# Altium footprint library Fuse1.PcbLib: 1 footprints
Each footprint in its own frame and in the unit in brackets; x right, y up, seen from the top. Pads: shape width x height; smd on the part's side, far side on the other; paste and mask are expansions set on the pad; w line width, h text height; cw(c..) or ccw(c..) is an arc to the next point about the centre after c.
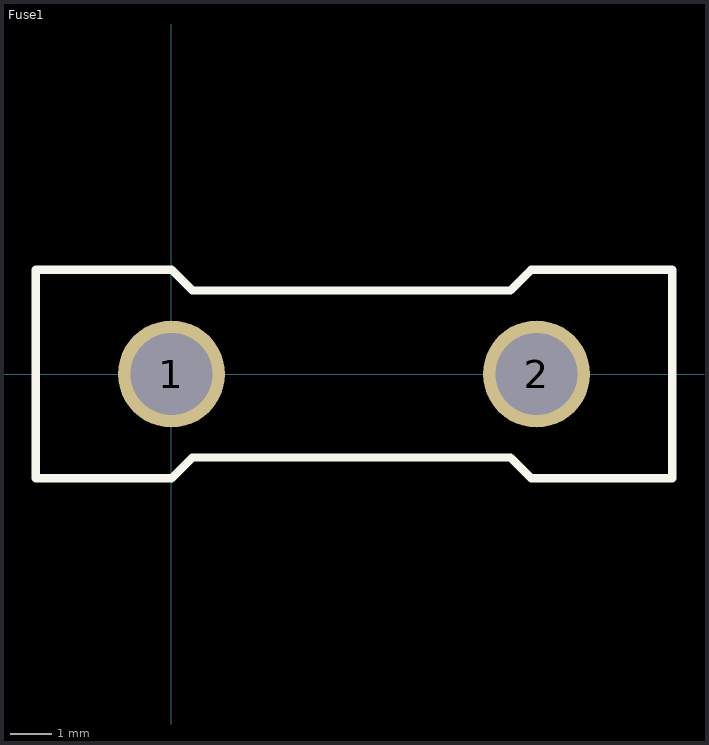
[diagram p0: the footprint, top view; thin cyan lines are the x and y axes]

## Fuse1 [mm]
height 5.08
pads (2):
  round 2.6 hole 2: 1(0,0) 2(8.89,0)
Top Overlay:
  lines w0.2: 0.508,-2.032 8.255,-2.032 ; 0.508,2.032 8.255,2.032 ; 12.192,-2.54 12.192,2.54
  lines w0.203: 0.508,-2.032 0,-2.54 -3.302,-2.54 -3.302,2.54 0,2.54 0.508,2.032 ; 8.255,-2.032 8.763,-2.54 12.192,-2.54 ; 8.255,2.032 8.763,2.54 12.192,2.54
3D body: height 0.76, standoff -2.03, extent -0.762,-0.759 0.759,0.759
3D body: height 4.18, standoff 0.38, extent 0.635,-1.905 8.255,1.897
3D body: height 4.68, standoff -0.13, extent -3.175,-2.408 0.635,2.408
3D body: height 4.68, standoff -0.13, extent 8.255,-2.408 12.065,2.408
3D body: height 0.76, standoff -2.03, extent 8.13,-0.762 9.65,0.756